# EAGLE library part RN08 (library gate433)
RESISTOR NETWORK
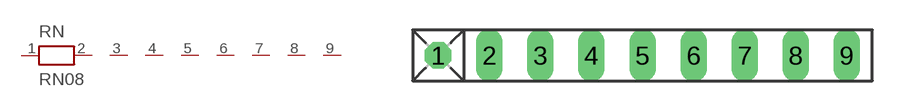
[diagram p11: symbol with the pads of RN-9; footprint RN-9]

Designator prefix RN

## RN08 (OC_FARNELL: unknown; OC_NEWARK: unknown)  [RN-9]
1  1  pas
2  2  pas
3  3  pas
4  4  pas
5  5  pas
6  6  pas
7  7  pas
8  8  pas
9  9  pas

## Footprint RN-9 (pad centres in mm)
RESISTOR NETWORK
drill 0.813 octagon: 1 -10.16,0
drill 0.813 long: 2 -7.62,0; 3 -5.08,0; 4 -2.54,0; 5 0,0; 6 2.54,0; 7 5.08,0; 8 7.62,0; 9 10.16,0